# Altium footprint library Resistors.PcbLib: 7 footprints
Each footprint in its own frame and in the unit in brackets; x right, y up, seen from the top. Pads: shape width x height; smd on the part's side, far side on the other; paste and mask are expansions set on the pad; w line width, h text height; cw(c..) or ccw(c..) is an arc to the next point about the centre after c.
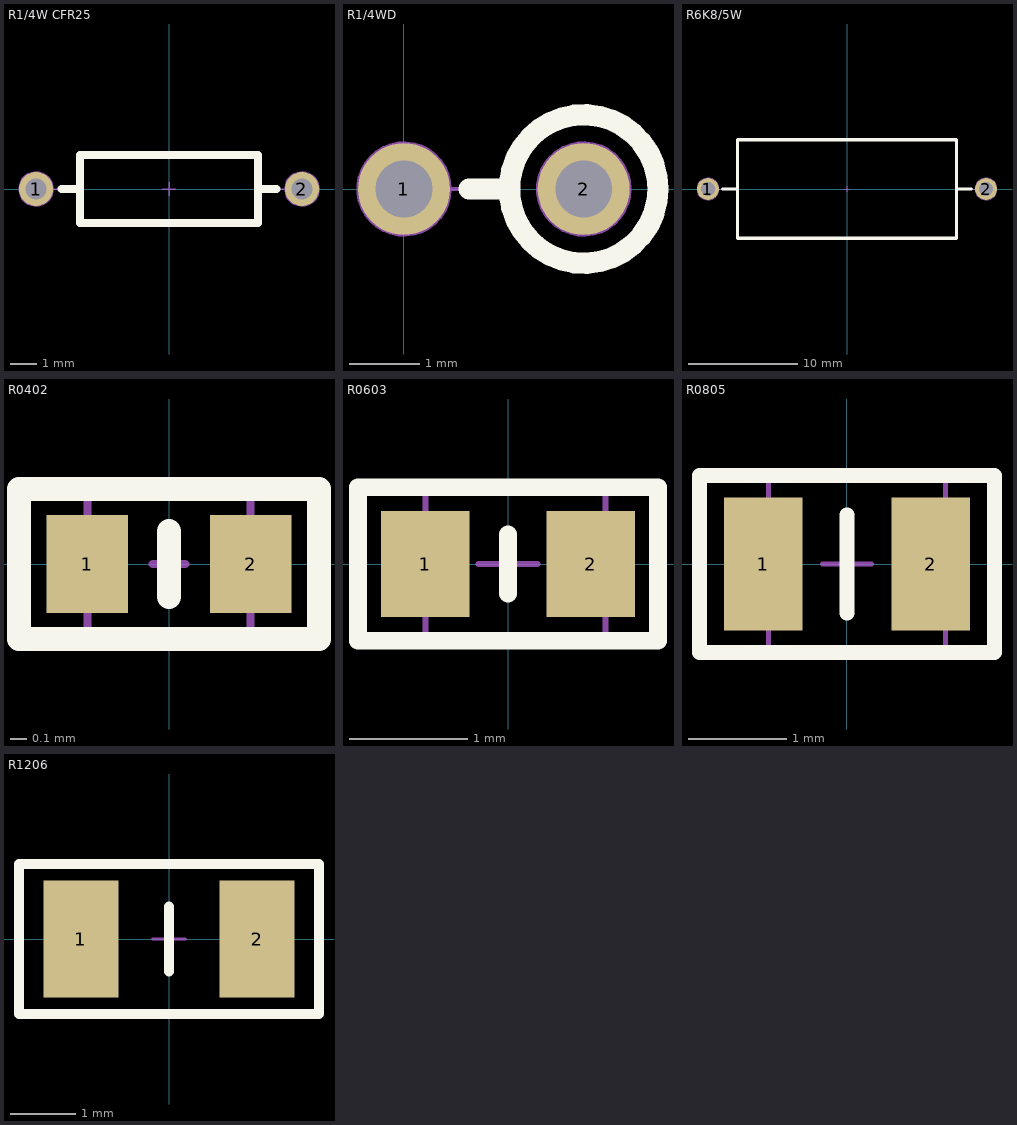
[diagram p0: the footprints below, top view; thin cyan lines are the x and y axes]

## R1/4W CFR25 [mm] "Axial Device, Thru-Hole; 2 Leads fi 0.55"
height 2.6
pads (2):
  round 1.3 hole 0.8 mask+0.1: 1(-5.08,0) 2(5.08,0)
Top Overlay:
  lines w0.3: -4.1,0 -3.4,0 ; 3.4,0 4.1,0 ; -3.4,-1.3 -3.4,1.3 3.4,1.3 3.4,-1.3 -3.4,-1.3
Top HCB:
  circle w0.05: c-5.08,0 r0.65
  circle w0.05: c5.08,0 r0.65
  lines w0.05: -4.43,0 -3.4,0 ; -0.25,0 0.25,0 ; 0,-0.25 0,0.25 ; 3.4,0 4.4,0 ; -3.4,-1.3 3.4,-1.3 3.4,1.3 -3.4,1.3 -3.4,-1.3
3D body "User Library-RESISTOR  0_25 W  0_4 IN LEAD PITCH.step": height 2.93, standoff -2.54, extent -5.385,-1.156 5.385,1.156

## R1/4WD [mm] "R 1/4W, 2 Pin 2.54 stand"
height 4.7
pads (2):
  round 1.3 hole 0.8: 1(0,0) 2(2.54,0)
Top Overlay:
  circle w0.3: c2.54,0 r1.05
  lines w0.3: 0.92,0 1.49,0
Top HCB:
  circle w0.05: c2.54,0 r1.05
  circle w0.05: c2.54,0 r0.65
  circle w0.05: c0,0 r0.65
  lines w0.05: 0.65,0 1.49,0
3D body "SW3dPS-Res_Stand.STEP": height 7.3, standoff -1.45, extent -0.252,-0.85 3.46,0.991

## R6K8/5W [mm]
height 9
pads (2):
  round 2 hole 1.3 mask+0.1: 1(-12.7,0) 2(12.7,0)
Top Overlay:
  lines w0.3: -11.35,0 -10,0 ; 10,0 11.35,0 ; -10,-4.5 -10,4.5 10,4.5 10,-4.5 -10,-4.5
Top HCB:
  circle w0.05: c-12.7,0 r1
  circle w0.05: c12.7,0 r1
  lines w0.05: -11.7,0 -10,0 ; -0.25,0 0.25,0 ; 0,-0.25 0,0.25 ; 10,0 11.7,0 ; -10,-4.5 -10,4.5 10,4.5 10,-4.5 -10,-4.5
3D body "User Library-Cement Fixed Resistors 5W 6K8 PCB Horizontal.STEP": height 9, standoff -3.6, extent -14.345,-5 14.345,5

## R0402 [mm] "RES SMD 1/16W 0402 (1005 Metric)"
height 0.35
pads (2):
  rect 0.5x0.6 smd mask+0.07: 1(-0.5,0) 2(0.5,0)
Top Overlay:
  lines w0.15: 0,-0.2 0,0.2 ; -0.92,-0.46 0.92,-0.46 0.92,0.46 -0.92,0.46 -0.92,-0.46
Top HCB:
  lines w0.05: -0.5,-0.46 -0.5,0.46 ; -0.1,0 0.1,0 ; 0,-0.1 0,0.1 ; 0.5,-0.46 0.5,0.46 ; -0.92,-0.46 0.92,-0.46 0.92,0.46 -0.92,0.46 -0.92,-0.46
3D body "User Library-CR1005-0402.STEP": height 0.35, standoff 0, extent -0.5,-0.25 0.5,0.25

## R0603 [mm] "RES SMD 1/16W 0402 (1608 Metric)"
height 0.45
pads (2):
  rect 0.75x0.9 smd mask+0.07: 1(-0.7,0) 2(0.7,0)
Top Overlay:
  lines w0.15: 0,-0.25 0,0.25 ; -1.27,-0.65 -1.27,0.65 1.27,0.65 1.27,-0.65 -1.27,-0.65
Top HCB:
  lines w0.05: -0.7,-0.65 -0.7,0.65 ; -0.25,0 0.25,0 ; 0,-0.25 0,0.25 ; 0.824,-0.65 0.824,0.65 ; -1.27,-0.65 -1.27,0.65 1.27,0.65 1.27,-0.65 -1.27,-0.65
3D body "User Library-SMD RESISTOR-1 (3).step": height 0.43, standoff -0.03, extent -0.8,-0.4 0.8,0.4

## R0805 [mm] "RES SMD 1/16W 0402 (2013 Metric)"
height 0.55
pads (2):
  rect 0.8x1.35 smd mask+0.07: 1(-0.85,0) 2(0.85,0)
Top Overlay:
  lines w0.15: 0,-0.5 0,0.5 ; -1.5,-0.9 -1.5,0.9 1.5,0.9 1.5,-0.9 -1.5,-0.9
Top HCB:
  lines w0.05: -0.8,-0.9 -0.8,0.9 ; -0.25,0 0.25,0 ; 0,-0.25 0,0.25 ; 1,-0.9 1,0.9 ; -1.5,-0.9 1.5,-0.9 1.5,0.9 -1.5,0.9 -1.5,-0.9
3D body "User Library-CR2012-0805.STEP": height 0.6, standoff 0, extent -1,-0.625 1,0.625

## R1206 [mm] "RES SMD 1/16W 0402 (3216 Metric)"
height 0.55
pads (2):
  rect 1.15x1.8 smd mask+0.1: 1(-1.35,0) 2(1.35,0)
Top Overlay:
  lines w0.15: 0,-0.5 0,0.5 ; -2.3,-1.15 2.3,-1.15 2.3,1.15 -2.3,1.15 -2.3,-1.15
Top HCB:
  lines w0.05: -0.25,0 0.25,0 ; 0,-0.25 0,0.25 ; -2.3,-1.15 -2.3,1.15 2.3,1.15 2.3,-1.15 -2.3,-1.15
3D body "User Library-R_1206.STEP": height 0.6, standoff 0, extent -1.6,-0.8 1.6,0.8